# EAGLE library part LTC3554 (library Pinoccio)
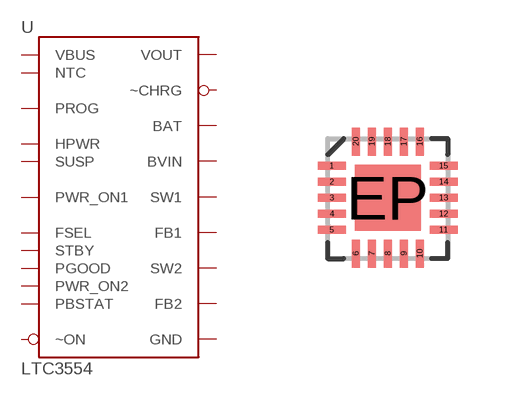
[diagram p44: symbol with the pads of QFN-20; footprint QFN-20]

Designator prefix -

## LTC3554QFN20  [QFN-20]
1  HPWR
2  FSEL  in
3  PBSTAT  out
4  PGOOD  out
5  ~ON  in
6  FB1  pwr
7  FB2  pwr
8  PWR_ON2  in
9  PWR_ON1  in
10  STBY  in
11  SW2  pwr
12  BVIN
13  SW1  pwr
14  ~CHRG  out
15  NTC
16  PROG
17  BAT  pwr
18  VOUT  pwr
19  SUSP
20  VBUS  pwr
EP  GND  pwr

## Footprint QFN-20 (pad centres in mm)
smd 0.7 x 0.2: 1 -1.4,0.8; 2 -1.4,0.4; 3 -1.4,0; 4 -1.4,-0.4; 5 -1.4,-0.8; 11 1.4,-0.8; 12 1.4,-0.4; 13 1.4,0; 14 1.4,0.4; 15 1.4,0.8
smd 0.2 x 0.7: 6 -0.8,-1.4; 7 -0.4,-1.4; 8 0,-1.4; 9 0.4,-1.4; 10 0.8,-1.4; 16 0.8,1.4; 17 0.4,1.4; 18 0,1.4; 19 -0.4,1.4; 20 -0.8,1.4
smd 1.65 x 1.65: EP 0,0